# Altium schematic symbol library Cyberdeck.SchLib: 178 symbols (part 4 of 5)
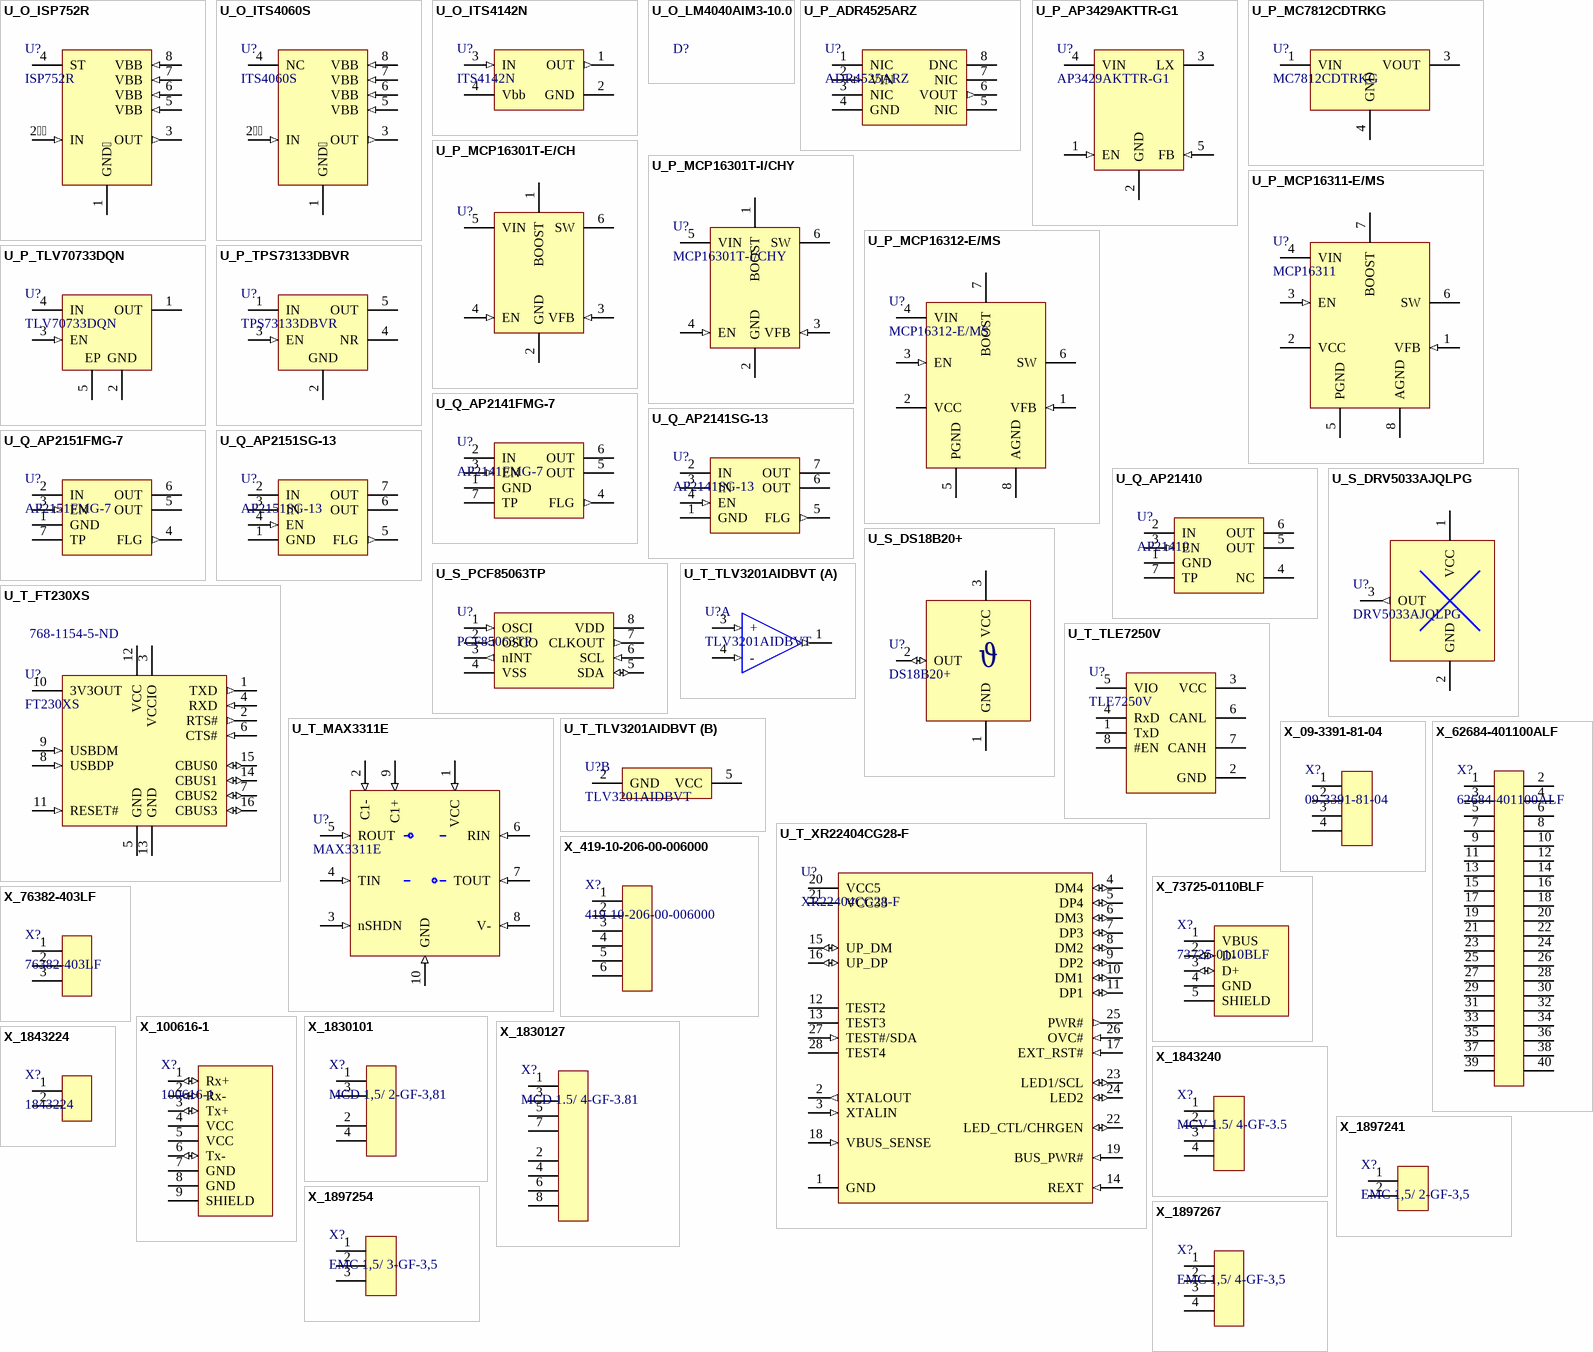
[diagram p8: symbols U_O_ISP752R to X_1897267]

## U_T_FT230XS
designator U?, comment FT230XS  Supplier Part Number 1: 768-1154-5-ND
USB to Basic UART Interface Chip, UHCI/OHCI/EHCI Compatible, USB 2.0 Compatible, -40 to +85 degC, 16-Pin SSOP, Pb-Free, Tube; Manufacturer 1: FTDI; Manufacturer Part Number 1: FT230XS-U; ComponentLink1Description: Manufacturer URL; ComponentLink1URL: http://www.ftdichip.com/; ComponentLink2Description: Datasheet; ComponentLink2URL: http://www.ftdichip.com/Support/Documents/DataSheets/ICs/DS_FT230X.pdf; ComponentLink3Description: FT230X Product Page; ComponentLink3URL: www.ftdichip.com/Products/ICs/FT230X.html; Supplier 1: Digi-Key; Case/Package: SSOP; ComponentLink4URL: https://datasheet.ciiva.com/16339/ds-ft230x-16339482.pdf; ComponentLink4Description: https://datasheet.ciiva.com/16339/ds-ft230x-16339482.pdf; ComponentLink5URL: https://datasheet.ciiva.com/6630/ds-ft230x-6630901.pdf; ComponentLink5Description: https://datasheet.ciiva.com/6630/ds-ft230x-6630901.pdf
footprint SSOP-16_N (SOP, 16-Leads, Body 4.9x3.9mm, Pitch 0.635mm, IPC Medium Density)
footprint SSOP-16_L (SOP, 16-Leads, Body 4.9x3.9mm, Pitch 0.635mm, IPC High Density)
footprint SSOP-16_M (SOP, 16-Leads, Body 4.9x3.9mm, Pitch 0.635mm, IPC Low Density)
pins: 1 TXD (out) "Transmit Asynchronous Data Output.", 2 RTS# (out) "Request to Send Control Output / Handshake Signal.", 3 VCCIO (power) "1V8 -3V3 supply for the IO cells.", 4 RXD (in) "Receiving Asynchronous Data Input.", 5 GND (power) "0V Ground input.", 6 CTS# (in) "Clear To Send Control Input / Handshake Signal.", 7 CBUS2 (io) "Configurable CBUS I/O Pin. Function of this pin is configured in the device MTP memory. The default configuration is TXLED#.", 8 USBDP (in) "USB Data Signal Plus.", 9 USBDM (in) "USB Data Signal Minus.", 10 3V3OUT (power) "3V3 output at 50mA. May be used to power VCCIO. When VCC is 3V3; pin 10 is an input pin and should be connected to pin 12.", 11 RESET# (in) "Reset input (active low).", 12 VCC (power) "5 V (or 3V3) supply to IC.", 13 GND (power) "0V Ground input.", 14 CBUS1 (io) "Configurable CBUS I/O Pin. Function of this pin is configured in the device MTP memory. The default configuration is RXLED#.", 15 CBUS0 (io) "Configurable CBUS I/O Pin. Function of this pin is configured in the device MTP memory. The default configuration is TXDEN.", 16 CBUS3 (io) "Configurable CBUS I/O Pin. Function of this pin is configured in the device MTP memory. The default configuration is SLEEP#."

## U_T_MAX3311E
designator U?, comment MAX3311E
IC TXRX RS232 460KBPS 10-UMAX; Manufacturer Part Number 1: MAX3311ECUB+; Manufacturer 1: Maxim; Supplier 1: Digi-Key; Supplier Part Number 1: MAX3311ECUB+-ND; ComponentLink1URL: https://datasheet.ciiva.com/3030/max3311e-max3313e-3030079.pdf; ComponentLink1Description: https://datasheet.ciiva.com/3030/max3311e-max3313e-3030079.pdf; ComponentLink2URL: https://datasheet.ciiva.com/1712/max3311e-max3313e-1712722.pdf; ComponentLink2Description: https://datasheet.ciiva.com/1712/max3311e-max3313e-1712722.pdf
footprint 10L uMAX (10L uMAX Maxim,)
pins: 1 VCC (in), 2 C1- (in), 3 nSHDN (in), 4 TIN (in), 5 ROUT (in), 6 RIN (in), 7 TOUT (in), 8 V- (in), 9 C1+ (in), 10 GND (in)

## U_T_TLE7250V
designator U?, comment TLE7250V
High Speed CAN-Transceiver; Manufacturer 1: Infineon; Manufacturer Part Number 1: TLE7250VSJXUMA1; Data Rate: 1Mbps; Min Supply Voltage: 4.5V; Number of Transceivers: 1; Max Supply Voltage: 5.5V; Quiescent Current: 13A; Operating Supply Voltage: 3.3V; Simplex/Duplex: Half Duplex; Receiver Hysteresis: 100mV; Stock 1: 703; Pricing 1: 1=0.91, 10=0.816, 100=0.6361, 500=0.5255, 1000=0.4148 (USD); Mount: Surface Mount; Number of Pins: 8; Packaging: Tape and Reel; Lead Free: Lead Free; Halogen Free: Halogen Free; ComponentLink1URL: http://www.mouser.com/ds/2/196/Infineon-TLE7250V-DS-v01_00-EN-793317.pdf; ComponentLink1Description: http://www.mouser.com/ds/2/196/Infineon-TLE7250V-DS-v01_00-EN-793317.pdf; ComponentLink2URL: https://www.infineon.com/dgdl/Infineon-TLE7250V-DS-v01_00-EN.pdf?fileId=5546d46259d9a4bf015a3cf6417e5e59; ComponentLink2Description: https://www.infineon.com/dgdl/Infineon-TLE7250V-DS-v01_00-EN.pdf?fileId=5546d46259d9a4bf015a3cf6417e5e59; ComponentLink3URL: http://www.infineon.com/dgdl/Infineon-TLE7250V-DS-v01_00-EN.pdf?fileId=5546d4624fb7fef2014fe04af1fa5f63&ack=t; ComponentLink3Description: http://www.infineon.com/dgdl/Infineon-TLE7250V-DS-v01_00-EN.pdf?fileId=5546d4624fb7fef2014fe04af1fa5f63&ack=t; Supplier 1: Digi-Key; Supplier Part Number 1: TLE7250VSJXUMA1CT-ND
footprint PG-DSO-8-44 (infineon PG-DSO-8-44)
pins: 1 TxD, 2 GND, 3 VCC, 4 RxD, 5 VIO, 6 CANL, 7 CANH, 8 #EN

## U_T_TLV3201AIDBVT
designator U?, comment TLV3201AIDBVT
Comparator Single R-R I/P 5.5V 5-Pin SOT-23 T/R; Manufacturer 1: Texas Instruments; Min Supply Voltage: 2.7V; Number of Channels: 1; Common Mode Rejection Ratio: 70dB; Propagation Delay: 50ns; Nominal Supply Current: 50uA; Input Offset Voltage (Vos): 5mV; Input Bias Current: 5nA; Quiescent Current: 40uA; Response Time: 0.047us; Power Supply Rejection Ratio (PSRR): 85dB; Hysteresis: 1.2mV; Supplier 1: Digi-Key; Supplier Part Number 1: 296-30404-1-ND; Manufacturer Part Number 1: TLV3201AIDBVT; Stock 1: 7017; Pricing 1: 1=1.56, 10=1.398, 100=1.0897 (USD); Mount: Surface Mount; Case/Package: SOT-23; Number of Pins: 5; Contact Plating: Gold; Min Operating Temperature: -40°C; Max Operating Temperature: 125°C; Max Supply Voltage: 5.5V; Packaging: Tape and Reel; Package Quantity: 250; Number of Elements: 1; Max Supply Current: 40uA; Type: General Purpose; Max Input Current: 5nA; Length: 3.05mm; Height: 1.3mm; Width: 1.75mm; Radiation Hardening: No; Lead Free: Lead Free; REACH SVHC: No SVHC; ComponentLink1URL: https://datasheet.ciiva.com/23702/1636646-23702135.pdf; ComponentLink1Description: https://datasheet.ciiva.com/23702/1636646-23702135.pdf; ComponentLink2URL: https://datasheet.ciiva.com/26218/sbos561a-26218594.pdf; ComponentLink2Description: https://datasheet.ciiva.com/26218/sbos561a-26218594.pdf; ComponentLink3URL: https://datasheet.ciiva.com/46396/1882110-46396746.pdf; ComponentLink3Description: https://datasheet.ciiva.com/46396/1882110-46396746.pdf; ComponentLink4URL: https://datasheet.ciiva.com/8066/1636646-8066012.pdf; ComponentLink4Description: https://datasheet.ciiva.com/8066/1636646-8066012.pdf; ComponentLink5URL: https://datasheet.ciiva.com/2966/tlv3202-2966811.pdf; ComponentLink5Description: https://datasheet.ciiva.com/2966/tlv3202-2966811.pdf; ComponentLink6URL: https://datasheet.ciiva.com/2961/tlv3201-2961254.pdf; ComponentLink6Description: https://datasheet.ciiva.com/2961/tlv3201-2961254.pdf; ComponentLink7URL: https://datasheet.ciiva.com/2961/tlv3201-2961255.pdf; ComponentLink7Description: https://datasheet.ciiva.com/2961/tlv3201-2961255.pdf; ComponentLink8URL: https://datasheet.ciiva.com/2961/tlv3201-2961256.pdf; ComponentLink8Description: https://datasheet.ciiva.com/2961/tlv3201-2961256.pdf
footprint SOT-23-5
part A pins: 1 (out), 3 + (in), 4 - (in)
part B pins: 2 GND (power), 5 VCC (power)

## U_T_XR22404CG28-F
designator U?, comment XR22404CG28-F
USB Controller USB 2.0 USB Interface; Manufacturer: Exar; Supplier 1: Digi-Key; Supplier Part Number 1: 1016-2163-ND; Manufacturer Part Number: XR22404CG28-F; ComponentLink1Description: Datasheet; ComponentLink1URL: https://www.exar.com/ds/xr22404.pdf
footprint SSOP-28 (SOP, 28-Leads, Body 9.91x3.90mm, Pitch 0.64mm, IPC Medium Density)
pins: 1 GND (power), 2 XTALOUT (out), 3 XTALIN (in), 4 DM4 (io), 5 DP4 (io), 6 DM3 (io), 7 DP3 (io), 8 DM2 (io), 9 DP2 (io), 10 DM1 (io), 11 DP1 (io), 12 TEST2, 13 TEST3, 14 REXT (in), 15 UP_DM (io), 16 UP_DP (io), 17 EXT_RST# (in), 18 VBUS_SENSE (in), 19 BUS_PWR# (in), 20 VCC5 (power), 21 VCC33 (power), 22 LED_CTL/CHRGEN (io), 23 LED1/SCL (io), 24 LED2 (io), 25 PWR# (out), 26 OVC# (in), 27 TEST#/SDA (in), 28 TEST4

## X_09-3391-81-04
designator X?, comment 09-3391-81-04
Binder, 4 Pole Panel Mount Connector Socket, Male Contacts; Supplier 1: Distrelec; Supplier Part Number 1: 144-18-076; Manufacturer: Binder; Manufacturer Part Number: 09-3391-81-04; ComponentLink1URL: https://datasheet.ciiva.com/11734/0900766b80e64efb-11734654.pdf; ComponentLink1Description: https://datasheet.ciiva.com/11734/0900766b80e64efb-11734654.pdf; ComponentLink2URL: https://datasheet.ciiva.com/14108/xqdata-allg-d-e-14108329.pdf; ComponentLink2Description: https://datasheet.ciiva.com/14108/xqdata-allg-d-e-14108329.pdf
footprint 09-3391-81-04
pins: 1, 2, 3, 4

## X_419-10-206-00-006000
designator X?, comment 419-10-206-00-006000
6 Position Spring Mating Target Connector Through Hole; Manufacturer: Mill-Max; Supplier 1: Digi-Key; Supplier Part Number 1: ED1376-ND; Manufacturer Part Number: 419-10-206-00-006000; ComponentLink1URL: https://www.mill-max.com/assets/pdfs/021.2.PDF; ComponentLink1Description: https://www.mill-max.com/assets/pdfs/021.2.PDF
footprint 419-10-206-00-006000_EDGE
pins: 1, 2, 3, 4, 5, 6

## X_62684-401100ALF
designator X?, comment 62684-401100ALF
40 Position FPC Connector Contacts, Bottom 0.020" (0.50mm) Surface Mount, Right Angle, Amphenol 62684-401100ALF, TE  4-1734592-0; Manufacturer: Amphenol FCI; Supplier 1: Digi-Key; Supplier Part Number 1: 609-1195-1-ND; Manufacturer Part Number: 62684-401100ALF; ComponentLink1URL: https://datasheet.ciiva.com/25631/0900766b8118e51f-25631168.pdf; ComponentLink1Description: https://datasheet.ciiva.com/25631/0900766b8118e51f-25631168.pdf; ComponentLink2URL: https://datasheet.ciiva.com/3112/62684-3112007.pdf; ComponentLink2Description: https://datasheet.ciiva.com/3112/62684-3112007.pdf; ComponentLink3URL: https://datasheet.ciiva.com/670/62684-670200.pdf; ComponentLink3Description: https://datasheet.ciiva.com/670/62684-670200.pdf; ComponentLink4URL: https://datasheet.ciiva.com/670/62684-670201.pdf; ComponentLink4Description: https://datasheet.ciiva.com/670/62684-670201.pdf; ComponentLink5URL: https://datasheet.ciiva.com/670/62684-670202.pdf; ComponentLink5Description: https://datasheet.ciiva.com/670/62684-670202.pdf; ComponentLink6URL: https://datasheet.ciiva.com/16659/62684-16659882.pdf; ComponentLink6Description: https://datasheet.ciiva.com/16659/62684-16659882.pdf; ComponentLink7URL: https://datasheet.ciiva.com/16709/70236840-16709916.pdf; ComponentLink7Description: https://datasheet.ciiva.com/16709/70236840-16709916.pdf; ComponentLink8URL: https://datasheet.ciiva.com/3112/62684-3112397.pdf; ComponentLink8Description: https://datasheet.ciiva.com/3112/62684-3112397.pdf; ComponentLink9URL: https://datasheet.ciiva.com/5772/62684-5772782.pdf; ComponentLink9Description: https://datasheet.ciiva.com/5772/62684-5772782.pdf; Supplier 2: Digi-Key; Supplier Part Number 2: A100226CT-ND; Manufacturer 2: TE CONNECTIVITY; Stock 2: 2337; ComponentLink10URL: https://datasheet.ciiva.com/16317/4-1734592-0-16317310.pdf; ComponentLink10Description: https://datasheet.ciiva.com/16317/4-1734592-0-16317310.pdf; ComponentLink11URL: https://datasheet.ciiva.com/46396/1795029-46396773.pdf; ComponentLink11Description: https://datasheet.ciiva.com/46396/1795029-46396773.pdf; ComponentLink12URL: https://datasheet.ciiva.com/10365/eng-ds-1-1773440-6-0506-10365927.pdf; ComponentLink12Description: https://datasheet.ciiva.com/10365/eng-ds-1-1773440-6-0506-10365927.pdf; ComponentLink13URL: https://datasheet.ciiva.com/669/eng-cd-1734592-c-c-1734592-669272.pdf; ComponentLink13Description: https://datasheet.ciiva.com/669/eng-cd-1734592-c-c-1734592-669272.pdf; ComponentLink14URL: https://datasheet.ciiva.com/669/eng-cd-1734592-c-c-1734592-669273.pdf; ComponentLink14Description: https://datasheet.ciiva.com/669/eng-cd-1734592-c-c-1734592-669273.pdf; ComponentLink15URL: https://datasheet.ciiva.com/669/eng-cd-1734592-c-c-1734592-669274.pdf; ComponentLink15Description: https://datasheet.ciiva.com/669/eng-cd-1734592-c-c-1734592-669274.pdf; ComponentLink16URL: https://datasheet.ciiva.com/16660/eng-ds-1-1773440-6-0506-16660381.pdf; ComponentLink16Description: https://datasheet.ciiva.com/16660/eng-ds-1-1773440-6-0506-16660381.pdf; ComponentLink17URL: https://datasheet.ciiva.com/1437/586796-1437950.pdf; ComponentLink17Description: https://datasheet.ciiva.com/1437/586796-1437950.pdf; Manufacturer Part Number 2: 4-1734592-0
footprint 4-1734592-0
pins: 1, 2, 3, 4, 5, 6, 7, 8, 9, 10, 11, 12, 13, 14, 15, 16, 17, 18, 19, 20, 21, 22, 23, 24, 25, 26, 27, 28, 29, 30, 31, 32, 33, 34, 35, 36, 37, 38, 39, 40

## X_73725-0110BLF
designator X?, comment 73725-0110BLF
CONN RCPT USB2.0 TYPEA 4POS R/A
footprint 73725-0110BLF
pins: 1 VBUS (power), 2 D- (io), 3 D+ (io), 4 GND (power), 5 SHIELD (power)

## X_76382-403LF
designator X?, comment 76382-403LF
3 Positions Header, Shrouded Connector 0.100" (2.54mm) Through Hole, Right Angle Tin; Manufacturer 1: Amphenol FCI; Supplier 1: Digi-Key; Supplier Part Number 1: 609-1292-ND; Manufacturer Part Number 1: 76382-403LF; ComponentLink1URL: https://datasheet.ciiva.com/13577/76382-105929-13577951.pdf; ComponentLink1Description: https://datasheet.ciiva.com/13577/76382-105929-13577951.pdf; ComponentLink2URL: https://datasheet.ciiva.com/713/76382-713319.pdf; ComponentLink2Description: https://datasheet.ciiva.com/713/76382-713319.pdf
footprint 76382-403LF
pins: 1, 2, 3

## X_100616-1
designator X?, comment 100616-1
TE CONNECTIVITY / AMP 100616-1 JACK, RJ45, THT; Supplier 1: Digi-Key; Supplier Part Number 1: A104931-ND; Manufacturer 1: TE Connectivity; Manufacturer Part Number 1: 100616-1; ComponentLink1URL: https://datasheet.ciiva.com/23759/1509416-23759356.pdf; ComponentLink1Description: https://datasheet.ciiva.com/23759/1509416-23759356.pdf; ComponentLink2URL: https://datasheet.ciiva.com/16323/eng-cs-82066-mod-jacks-and-mrj21-prod-single-1107-16323398.pdf; ComponentLink2Description: https://datasheet.ciiva.com/16323/eng-cs-82066-mod-jacks-and-mrj21-prod-single-1107-16323398.pdf; ComponentLink3URL: https://datasheet.ciiva.com/16548/eng-cs-82066-mod-jacks-and-mrj21-prod-single-1107-16548141.pdf; ComponentLink3Description: https://datasheet.ciiva.com/16548/eng-cs-82066-mod-jacks-and-mrj21-prod-single-1107-16548141.pdf; ComponentLink4URL: https://datasheet.ciiva.com/6931/eng-cd-100616-p-6931516.pdf; ComponentLink4Description: https://datasheet.ciiva.com/6931/eng-cd-100616-p-6931516.pdf; ComponentLink5URL: https://datasheet.ciiva.com/1107/492544-1107159.pdf; ComponentLink5Description: https://datasheet.ciiva.com/1107/492544-1107159.pdf; ComponentLink6URL: https://datasheet.ciiva.com/3139/eng-cs-82066-mod-jacks-and-mrj21-prod-single-1107-3139307.pdf; ComponentLink6Description: https://datasheet.ciiva.com/3139/eng-cs-82066-mod-jacks-and-mrj21-prod-single-1107-3139307.pdf
footprint 100616-1
pins: 1 Rx+ (io), 2 Rx- (io), 3 Tx+ (io), 4 VCC (power), 5 VCC (power), 6 Tx- (io), 7 GND (power), 8 GND (power), 9 SHIELD (power)

## X_1830101
designator X?, comment MCD 1,5/ 2-GF-3,81
Manufacturer 1: Phoenix Contact; Manufacturer Part Number 1: 1830101; Supplier 1: Digi-Key; Supplier Part Number 1: 277-14134-ND; ComponentLink1URL: http://components.arrow.com/part/dataview/44194232S75533N1555; ComponentLink1Description: http://components.arrow.com/part/dataview/44194232S75533N1555; ComponentLink2URL: //media.digikey.com/pdf/Data%20Sheets/Phoenix%20Contact%20PDFs/1830101.pdf; ComponentLink2Description: //media.digikey.com/pdf/Data%20Sheets/Phoenix%20Contact%20PDFs/1830101.pdf; ComponentLink3URL: http://www.mouser.com/ds/2/324/ItemDetail_1830101-922520.pdf; ComponentLink3Description: http://www.mouser.com/ds/2/324/ItemDetail_1830101-922520.pdf
footprint MCD 1,5/ 2-GF-3,81
pins: 1, 2, 3, 4

## X_1830127
designator X?, comment MCD 1.5/ 4-GF-3.81
Manufacturer 1: Phoenix Contact; Manufacturer Part Number 1: 1830127; Supplier 1: Digi-Key; Supplier Part Number 1: 1830127-ND; ComponentLink1URL: http://www.mouser.com/ds/2/324/ItemDetail_1830127-917667.pdf; ComponentLink1Description: http://www.mouser.com/ds/2/324/ItemDetail_1830127-917667.pdf; ComponentLink2URL: http://components.arrow.com/part/dataview/44194238S9084575N1555; ComponentLink2Description: http://components.arrow.com/part/dataview/44194238S9084575N1555
footprint MCD 1,5/ 4-GF-3,81
pins: 1, 2, 3, 4, 5, 6, 7, 8

## X_1843224
designator X?, comment 1843224
Pluggable Terminal Blocks MCV 1.5/ 2-GF-3.5; Manufacturer: Phoenix Contact; Supplier 1: Digi-Key; Supplier Part Number 1: 277-6083-ND; Manufacturer Part Number: 1843224
footprint MCV 1,5/ 2-GF-3,5
pins: 1, 2

## X_1843240
designator X?, comment MCV 1.5/ 4-GF-3.5
Manufacturer 1: Phoenix Contact; Manufacturer Part Number 1: 1843240; Supplier 1: Digi-Key; Supplier Part Number 1: 277-6052-ND; ComponentLink1URL: https://datasheet.ciiva.com/16097/1843240-16097113.pdf; ComponentLink1Description: https://datasheet.ciiva.com/16097/1843240-16097113.pdf; ComponentLink2URL: https://datasheet.ciiva.com/6754/1843240-6754509.pdf; ComponentLink2Description: https://datasheet.ciiva.com/6754/1843240-6754509.pdf; ComponentLink3URL: https://datasheet.ciiva.com/26840/getdatasheetpartid-514980-26840529.pdf; ComponentLink3Description: https://datasheet.ciiva.com/26840/getdatasheetpartid-514980-26840529.pdf; ComponentLink4URL: https://datasheet.ciiva.com/29212/788433-da-01-en-grundgehaeuse-1843240-250-st-29212946.pdf; ComponentLink4Description: https://datasheet.ciiva.com/29212/788433-da-01-en-grundgehaeuse-1843240-250-st-29212946.pdf
footprint MCV 1,5/ 4-GF-3,5 (EMC 1,5/ 4-GF-3,5)
pins: 1, 2, 3, 4

## X_1897241
designator X?, comment EMC 1,5/ 2-GF-3,5
Manufacturer 1: Phoenix Contact; Manufacturer Part Number 1: 1897241; Supplier 1: Digi-Key; Supplier Part Number 1: 1897241-ND; ComponentLink1URL: https://datasheet.ciiva.com/16097/1897241-16097355.pdf; ComponentLink1Description: https://datasheet.ciiva.com/16097/1897241-16097355.pdf; ComponentLink2URL: https://datasheet.ciiva.com/29684/connection-technology-2013-2014-cat-29684313.pdf; ComponentLink2Description: https://datasheet.ciiva.com/29684/connection-technology-2013-2014-cat-29684313.pdf
footprint EMC 1,5/ 2-GF-3,5
pins: 1, 2

## X_1897254
designator X?, comment EMC 1,5/ 3-GF-3,5
Manufacturer 1: Phoenix Contact; Manufacturer Part Number 1: 1897254; Supplier 1: Digi-Key; Supplier Part Number 1: 1897254-ND; ComponentLink1URL: http://components.arrow.com/part/dataview/44212184S75125N1555; ComponentLink1Description: http://components.arrow.com/part/dataview/44212184S75125N1555; ComponentLink2URL: http://www.mouser.com/ds/2/324/ItemDetail_1897254-930176.pdf; ComponentLink2Description: http://www.mouser.com/ds/2/324/ItemDetail_1897254-930176.pdf
footprint EMC 1,5/ 3-GF-3,5
pins: 1, 2, 3

## X_1897267
designator X?, comment EMC 1,5/ 4-GF-3,5
EMC 1,5/ 3-GF-3,5; Manufacturer 1: Phoenix Contact; Manufacturer Part Number 1: 1897267; Supplier 1: Digi-Key; Supplier Part Number 1: 1897267-ND; ComponentLink1URL: http://components.arrow.com/part/dataview/44212188S75173N1555; ComponentLink1Description: http://components.arrow.com/part/dataview/44212188S75173N1555; ComponentLink2URL: http://www.mouser.com/ds/2/324/ItemDetail_1897267-930178.pdf; ComponentLink2Description: http://www.mouser.com/ds/2/324/ItemDetail_1897267-930178.pdf; ComponentLink3URL: //media.digikey.com/pdf/Data%20Sheets/Phoenix%20Contact%20PDFs/Connection_Technology_2013-2014_Cat.pdf; ComponentLink3Description: //media.digikey.com/pdf/Data%20Sheets/Phoenix%20Contact%20PDFs/Connection_Technology_2013-2014_Cat.pdf
footprint EMC 1,5/ 4-GF-3,5
pins: 1, 2, 3, 4

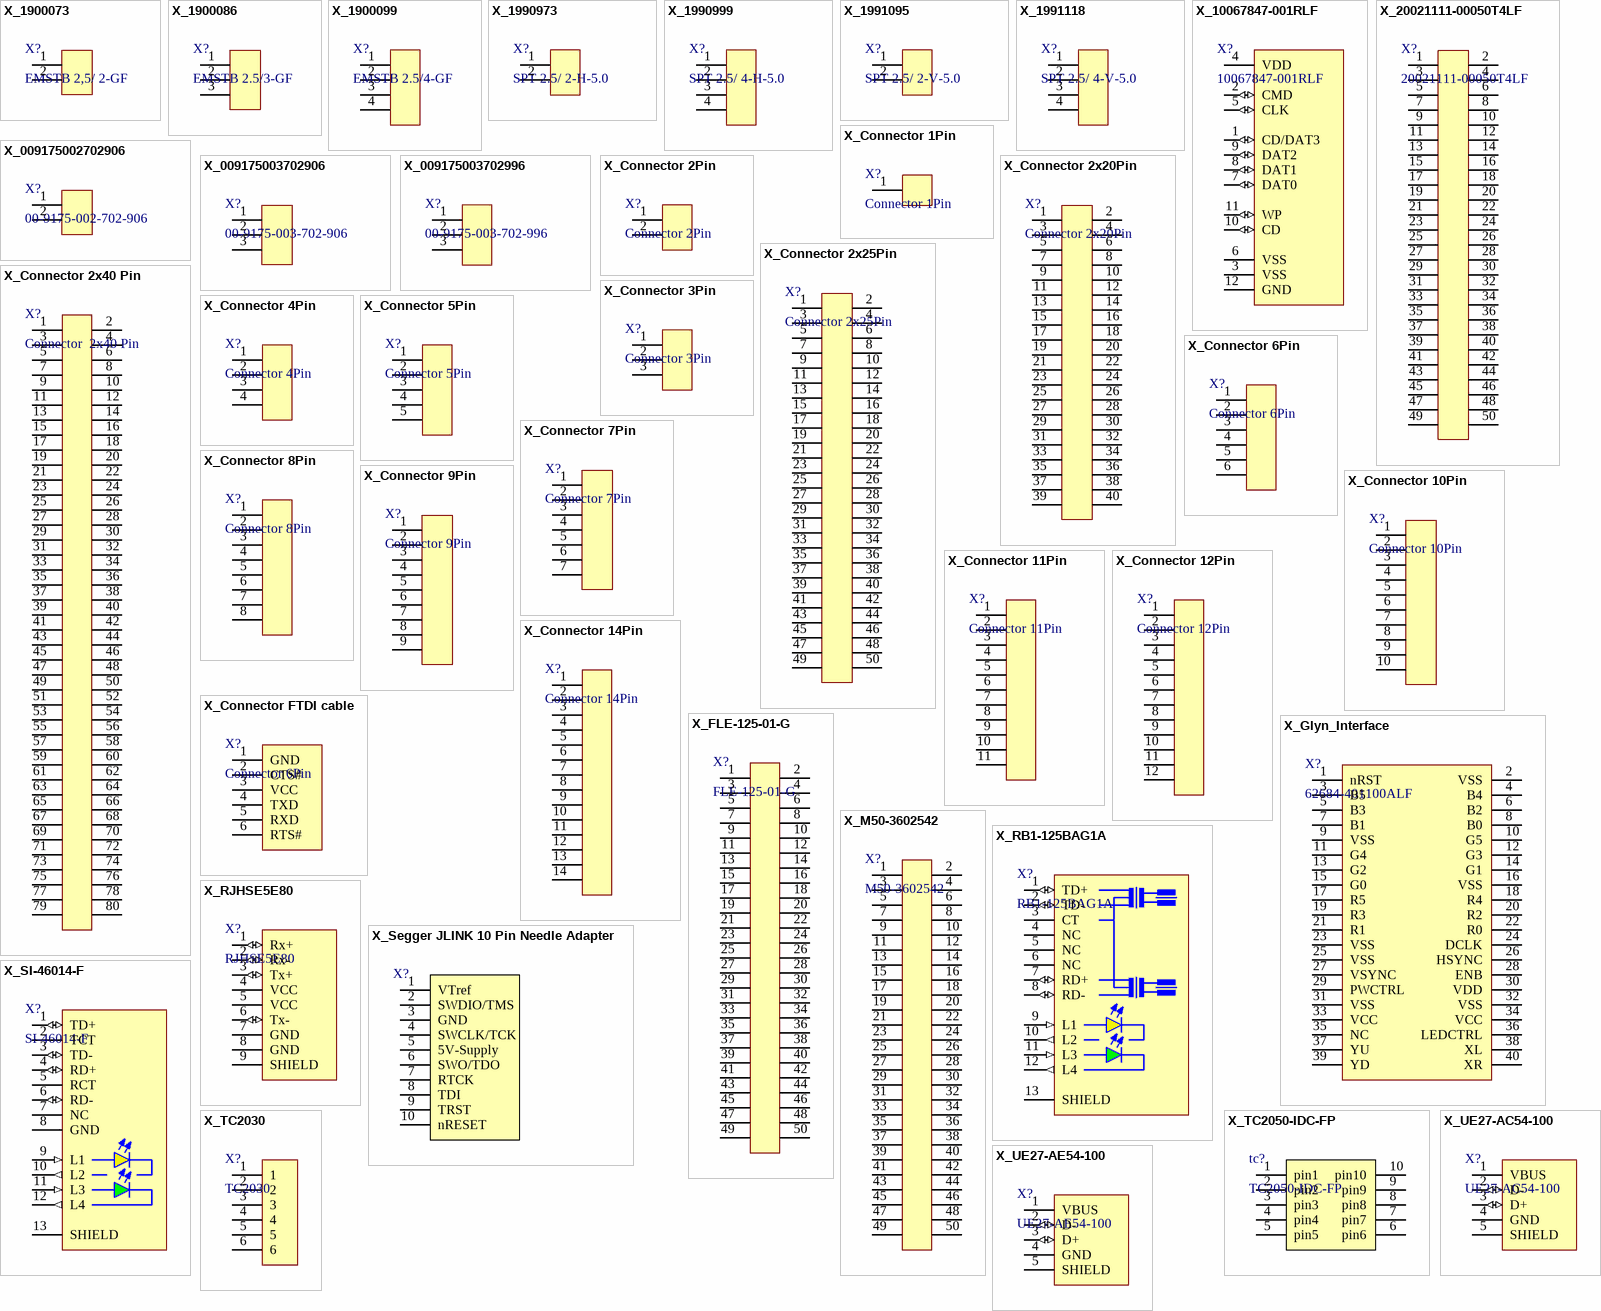
[diagram p4: symbols X_1900073 to X_UE27-AE54-100]

## X_1900073
designator X?, comment EMSTB 2,5/ 2-GF
Pluggable Terminal Blocks EMSTB 2.5/2-GF; Manufacturer 1: Phoenix Contact; Manufacturer Part Number 1: 1900073; Supplier 1: Digi-Key; Supplier Part Number 1: 277-14326-ND; ComponentLink1URL: https://datasheet.ciiva.com/16097/1900073-16097371.pdf; ComponentLink1Description: https://datasheet.ciiva.com/16097/1900073-16097371.pdf
footprint EMSTB 2,5/ 2-GF
pins: 1, 2

## X_1900086
designator X?, comment EMSTB 2.5/3-GF
Pluggable Terminal Blocks EMSTB 2.5/3-GF; Manufacturer 1: Phoenix Contact; Manufacturer Part Number 1: 1900086; Supplier 1: Digi-Key; Supplier Part Number 1: 1900086-ND; ComponentLink1URL: http://components.arrow.com/part/dataview/44220487S75226N1555; ComponentLink1Description: http://components.arrow.com/part/dataview/44220487S75226N1555; ComponentLink2URL: http://www.mouser.com/ds/2/324/ItemDetail_1900086-930201.pdf; ComponentLink2Description: http://www.mouser.com/ds/2/324/ItemDetail_1900086-930201.pdf; ComponentLink3URL: //media.digikey.com/pdf/Data%20Sheets/Phoenix%20Contact%20PDFs/1900086.pdf; ComponentLink3Description: //media.digikey.com/pdf/Data%20Sheets/Phoenix%20Contact%20PDFs/1900086.pdf
footprint EMSTB 2,5/ 3-GF
pins: 1, 2, 3

## X_1900099
designator X?, comment EMSTB 2.5/4-GF
Pluggable Terminal Blocks EMSTB 2.5/4-GF; Manufacturer 1: Phoenix Contact; Manufacturer Part Number 1: 1900099; Supplier 1: Digi-Key; Supplier Part Number 1: 1900099-ND; ComponentLink1URL: https://datasheet.ciiva.com/816/1900099-816890.pdf; ComponentLink1Description: https://datasheet.ciiva.com/816/1900099-816890.pdf
footprint EMSTB 2.5/4-GF
pins: 1, 2, 3, 4

## X_1990973
designator X?, comment SPT 2.5/ 2-H-5.0
Fixed Terminal Blocks SPT 2.5/ 2-H-5.0 5MM 2P HORZ SPR; Manufacturer 1: Phoenix Contact; Manufacturer Part Number 1: 1990973; Supplier 1: Digi-Key; Supplier Part Number 1: 277-7665-ND; ComponentLink1URL: https://datasheet.ciiva.com/24441/1990973-24441484.pdf; ComponentLink1Description: https://datasheet.ciiva.com/24441/1990973-24441484.pdf; ComponentLink2URL: https://datasheet.ciiva.com/11758/0900766b80ff57cd-11758662.pdf; ComponentLink2Description: https://datasheet.ciiva.com/11758/0900766b80ff57cd-11758662.pdf
footprint SPT 2,5/2-H-5,0
pins: 1, 2

## X_1990999
designator X?, comment SPT 2.5/ 4-H-5.0
Fixed Terminal Blocks SPT 2.5/ 4-H-5.0 5MM 4P HORZ SPR; Manufacturer 1: Phoenix Contact; Manufacturer Part Number 1: 1990999; Supplier 1: Digi-Key; Supplier Part Number 1: 277-9154-ND; ComponentLink1URL: https://datasheet.ciiva.com/11758/0900766b80ff57cf-11758637.pdf; ComponentLink1Description: https://datasheet.ciiva.com/11758/0900766b80ff57cf-11758637.pdf
footprint SPT 2,5/4-H-5,0
pins: 1, 2, 3, 4

## X_1991095
designator X?, comment SPT 2.5/ 2-V-5.0
Fixed Terminal Blocks SPT 2.5/ 2-V-5.0 5MM 2P VERT SPR; Manufacturer 1: Phoenix Contact; Manufacturer Part Number 1: 1991095; Supplier 1: Digi-Key; Supplier Part Number 1: 277-6267-ND; ComponentLink1URL: https://datasheet.ciiva.com/16051/1991095-16051374.pdf; ComponentLink1Description: https://datasheet.ciiva.com/16051/1991095-16051374.pdf; ComponentLink2URL: https://datasheet.ciiva.com/6752/1991095-6752880.pdf; ComponentLink2Description: https://datasheet.ciiva.com/6752/1991095-6752880.pdf; ComponentLink3URL: https://datasheet.ciiva.com/29222/774864-da-01-en-printklemme-1991095-100-st-29222380.pdf; ComponentLink3Description: https://datasheet.ciiva.com/29222/774864-da-01-en-printklemme-1991095-100-st-29222380.pdf
footprint SPT 2,5/2-V-5,0
pins: 1, 2

## X_1991118
designator X?, comment SPT 2.5/ 4-V-5.0
Fixed Terminal Blocks SPT 2.5/ 4-V-5.0 5MM 4P VERT SPR; Manufacturer 1: Phoenix Contact; Manufacturer Part Number 1: 1991118; Supplier 1: Digi-Key; Supplier Part Number 1: 277-6407-ND; ComponentLink1URL: https://datasheet.ciiva.com/11758/0900766b80ffd31d-11758652.pdf; ComponentLink1Description: https://datasheet.ciiva.com/11758/0900766b80ffd31d-11758652.pdf; ComponentLink2URL: https://datasheet.ciiva.com/6752/1991118-6752792.pdf; ComponentLink2Description: https://datasheet.ciiva.com/6752/1991118-6752792.pdf; ComponentLink3URL: https://datasheet.ciiva.com/14609/70055231-14609885.pdf; ComponentLink3Description: https://datasheet.ciiva.com/14609/70055231-14609885.pdf
footprint SPT 2,5/4-V-5,0
pins: 1, 2, 3, 4

## X_10067847-001RLF
designator X?, comment 10067847-001RLF
CONN SD CARD PUSH-PUSH SMD; Manufacturer 1: Amphenol FCI; Supplier 1: Digi-Key; Supplier Part Number 1: 609-3956-1-ND; Manufacturer Part Number 1: 10067847-001RLF; ComponentLink1URL: https://datasheet.ciiva.com/4581/gs-12-497-4581078.pdf; ComponentLink1Description: https://datasheet.ciiva.com/4581/gs-12-497-4581078.pdf; ComponentLink2URL: https://datasheet.ciiva.com/1106/10067847-1106690.pdf; ComponentLink2Description: https://datasheet.ciiva.com/1106/10067847-1106690.pdf; ComponentLink3URL: https://datasheet.ciiva.com/16547/10067847-16547175.pdf; ComponentLink3Description: https://datasheet.ciiva.com/16547/10067847-16547175.pdf; ComponentLink4URL: https://datasheet.ciiva.com/16469/10067847-16469065.pdf; ComponentLink4Description: https://datasheet.ciiva.com/16469/10067847-16469065.pdf; ComponentLink5URL: https://datasheet.ciiva.com/14617/70248486-14617899.pdf; ComponentLink5Description: https://datasheet.ciiva.com/14617/70248486-14617899.pdf; ComponentLink6URL: https://datasheet.ciiva.com/1107/10067847-1107127.pdf; ComponentLink6Description: https://datasheet.ciiva.com/1107/10067847-1107127.pdf; ComponentLink7URL: https://datasheet.ciiva.com/683/10067847-683412.pdf; ComponentLink7Description: https://datasheet.ciiva.com/683/10067847-683412.pdf; ComponentLink8URL: https://datasheet.ciiva.com/683/10067847-683413.pdf; ComponentLink8Description: https://datasheet.ciiva.com/683/10067847-683413.pdf; ComponentLink9URL: https://datasheet.ciiva.com/683/10067847-683411.pdf; ComponentLink9Description: https://datasheet.ciiva.com/683/10067847-683411.pdf
footprint 10067847 (Footprint not found)
pins: 1 CD/DAT3 (io), 2 CMD (io), 3 VSS (power), 4 VDD (power), 5 CLK (io), 6 VSS (power), 7 DAT0 (io), 8 DAT1 (io), 9 DAT2 (io), 10 CD (io), 11 WP (io), 12 GND (power)

## X_20021111-00050T4LF
designator X?, comment 20021111-00050T4LF
50 Positions Header, Unshrouded Connector 0.050" (1.27mm) Through Hole Gold; Manufacturer: Amphenol FCI; Contact Resistance: 30mR; Current Rating: 50A; Voltage Rating: 125V; Number of Positions: 50; Gender: Male; Connector Type: Male Pin; Row Spacing: 0.05inch; Mating Post Length: 3.05mm; Supplier 1: Digi-Key; Supplier Part Number 1: 609-3725-ND; Manufacturer Part Number: 20021111-00050T4LF; Stock 1: 810; Pricing 1: 1=2.63, 10=2.527, 100=2.1058, 500=1.78994, 1000=1.52671, 5000=1.36877 (USD); Mount: Through Hole; Contact Plating: Gold; Contact Material: Nickel,Copper Alloy; Colour: Black; Housing Colour: Black; Housing Material: Plastic; Min Operating Temperature: -40°C; Max Operating Temperature: 85°C; Number of Rows: 2; Packaging: Rail/Tube; Package Quantity: 18; Termination: Solder; Max Voltage Rating (AC): 125V; Number of Contacts: 50; Orientation: Straight; Length: 31.75mm; Pitch: 1.27mm; Contact Mating Length: 0.12inch; Termination Post Length: 2.3mm; Depth: 3.4mm; ComponentLink1URL: https://datasheet.ciiva.com/409/20021111-409178.pdf; ComponentLink1Description: https://datasheet.ciiva.com/409/20021111-409178.pdf; ComponentLink2URL: https://datasheet.ciiva.com/10033/20021111-10033770.pdf; ComponentLink2Description: https://datasheet.ciiva.com/10033/20021111-10033770.pdf; ComponentLink3URL: https://datasheet.ciiva.com/13857/20021111-13857309.pdf; ComponentLink3Description: https://datasheet.ciiva.com/13857/20021111-13857309.pdf
footprint 20021111-00050T4LF (CONN HEADER 50POS UNSHD VERT T/H)
pins: 1, 2, 3, 4, 5, 6, 7, 8, 9, 10, 11, 12, 13, 14, 15, 16, 17, 18, 19, 20, 21, 22, 23, 24, 25, 26, 27, 28, 29, 30, 31, 32, 33, 34, 35, 36, 37, 38, 39, 40, 41, 42, 43, 44, 45, 46, 47, 48, 49, 50

## X_009175002702906
designator X?, comment 00-9175-002-702-906
Conn IDC Connector RCP 2 POS 2.5mm Solder ST SMD T/R; Manufacturer: Kyocera AVX; Manufacturer Part Number: 009175002702906; Supplier 1: Digi-Key; Supplier Part Number 1: 009175002702906-ND; ComponentLink1URL: http://www.avx.com/docs/Catalogs/Capped%20IDC%209175-700.pdf; ComponentLink1Description: http://www.avx.com/docs/Catalogs/Capped%20IDC%209175-700.pdf; ComponentLink2URL: http://datasheets.avx.com/CappedIDC_9175-700.pdf; ComponentLink2Description: http://datasheets.avx.com/CappedIDC_9175-700.pdf
footprint 00-9175-002-702-906
pins: 1, 2

## X_009175003702906
designator X?, comment 00-9175-003-702-906
Conn IDC Connector RCP 3 POS 2.5mm Solder ST SMD T/R; Manufacturer: Kyocera AVX; Manufacturer Part Number: 009175003702906; Supplier 1: Digi-Key; Supplier Part Number 1: 009175003702906-ND; ComponentLink1URL: http://datasheets.avx.com/CappedIDC_9175-700.pdf; ComponentLink1Description: http://datasheets.avx.com/CappedIDC_9175-700.pdf; ComponentLink2URL: http://www.avx.com/docs/Catalogs/Capped%20IDC%209175-700.pdf; ComponentLink2Description: http://www.avx.com/docs/Catalogs/Capped%20IDC%209175-700.pdf
footprint 00-9175-003-702-906
pins: 1, 2, 3

## X_009175003702996
designator X?, comment 00-9175-003-702-996
3 Position Individual Wires Connector White IDC 26 AWG Surface Mount, Right Angle; Manufacturer: Kyocera AVX; Manufacturer Part Number: 009175003702996; Supplier 1: Digi-Key; Supplier Part Number 1: 478-9530-1-ND; ComponentLink1URL: http://datasheets.avx.com/CappedIDC_9175-700.pdf; ComponentLink1Description: http://datasheets.avx.com/CappedIDC_9175-700.pdf
footprint 00-9175-003-702-996
pins: 1, 2, 3

## X_Connector 1Pin
designator X?, comment Connector 1Pin
Generic connector 1 Pin
footprint Pin Header 1x1 TH Pitch 2.54mm (PinHeader 1x1 TH Pitch 2.54mm)
footprint Pin Header 1x1 TH Pitch 2.54mm TP (PinHeader 1x1 TH Pitch 2.54mm)
pins: 1

## X_Connector 2Pin
designator X?, comment Connector 2Pin
Generic connector 2 Pin
footprint Pin Header 1x2 TH Pitch 2.54mm (PinHeader 1x2 TH Pitch 2.54mm)
footprint Solderpads2x2.54
footprint Pin Header 1x2 TH Pitch 2.54mm f (PinHeader 1x2 TH Pitch 2.54mm female)
pins: 1, 2

## X_Connector 2x20Pin
designator X?, comment Connector 2x20Pin
Generic connector 2x20 Pin
footprint Pin Header 2x20 TH Pitch 2.54mm F (PinHeader 2x20 TH Pitch 2.54mm Female)
footprint Pin Header 2x20 TH Pitch 2.54mm (PinHeader 2x20 TH Pitch 2.54mm)
footprint Pin Header 2x20 TH Pitch 2.54mm - sh (PinHeader 2x20 TH Pitch 2.54mm)
pins: 1, 2, 3, 4, 5, 6, 7, 8, 9, 10, 11, 12, 13, 14, 15, 16, 17, 18, 19, 20, 21, 22, 23, 24, 25, 26, 27, 28, 29, 30, 31, 32, 33, 34, 35, 36, 37, 38, 39, 40

## X_Connector 2x25Pin
designator X?, comment Connector 2x25Pin
Generic connector 2x25 Pin
footprint Pin Header 2x25 TH Pitch 2.54mm (PinHeader 2x20 TH Pitch 2.54mm)
footprint 20021111-00050T4LF (CONN HEADER 50POS UNSHD VERT T/H)
footprint Pin Header 2x25 SMD Pitch 2.54mm F (PinHeader 2x25 SMD Pitch 2.54mm female)
footprint Pin Header 2x25 TH Pitch 2.54mm F (PinHeader 2x20 TH Pitch 2.54mm female)
pins: 1, 2, 3, 4, 5, 6, 7, 8, 9, 10, 11, 12, 13, 14, 15, 16, 17, 18, 19, 20, 21, 22, 23, 24, 25, 26, 27, 28, 29, 30, 31, 32, 33, 34, 35, 36, 37, 38, 39, 40, 41, 42, 43, 44, 45, 46, 47, 48, 49, 50

## X_Connector 2x40 Pin
designator X?, comment Connector  2x40 Pin
Generic connector  2x40 Pin
footprint Pin Header 2x40 TH Pitch 2.54mm R (PinHeader 2x40 TH Pitch 2.54mm 90°)
footprint Pin Header 2x40 TH Pitch 2.54mm RR (PinHeader 2x40 TH Pitch 2.54mm 90°)
pins: 1, 2, 3, 4, 5, 6, 7, 8, 9, 10, 11, 12, 13, 14, 15, 16, 17, 18, 19, 20, 21, 22, 23, 24, 25, 26, 27, 28, 29, 30, 31, 32, 33, 34, 35, 36, 37, 38, 39, 40, 41, 42, 43, 44, 45, 46, 47, 48, 49, 50, 51, 52, 53, 54, 55, 56, 57, 58, 59, 60, 61, 62, 63, 64, 65, 66, 67, 68, 69, 70, 71, 72, 73, 74, 75, 76, 77, 78, 79, 80

## X_Connector 3Pin
designator X?, comment Connector 3Pin
Generic connector 3 Pin
footprint Pin Header 1x3 TH Pitch 2.54mm (PinHeader 1x3 TH Pitch 2.54mm)
footprint Pin Header 1x3 TH Pitch 2.54mm f (PinHeader 1x3 TH Pitch 2.54mm female)
pins: 1, 2, 3

## X_Connector 4Pin
designator X?, comment Connector 4Pin
Generic connector 4 Pin
footprint Pin Header 1x4 TH Pitch 2.54mm (PinHeader 1x4 TH Pitch 2.54mm)
footprint Binder 99 3390 282 04
footprint Pin Header 1x4 TH Pitch 2.54mm f (PinHeader 1x4 TH Pitch 2.54mm female)
pins: 1, 2, 3, 4

## X_Connector 5Pin
designator X?, comment Connector 5Pin
Generic connector 5 Pin
footprint Pin Header 1x5 TH Pitch 2.54mm (PinHeader 1x5 TH Pitch 2.54mm)
footprint Pin Header 1x5 TH Pitch 2.54mm f (PinHeader 1x5 TH Pitch 2.54mm female)
footprint circular pcb connector
pins: 1, 2, 3, 4, 5

## X_Connector 6Pin
designator X?, comment Connector 6Pin
Generic connector 6 Pin
footprint Pin Header 1x6 TH Pitch 2.54mm (PinHeader 1x6 TH Pitch 2.54mm)
footprint 419-10-206-00-006000_EDGE
footprint Pin Header 2x3 TH Pitch 2.54mm (PinHeader 2x3 TH Pitch 2.54mm)
footprint Pin Header 1x6 TH Pitch 2.54mm f (PinHeader 1x6 TH Pitch 2.54mm female)
footprint Pin Header 2x3 TH Pitch 2.54mm f (PinHeader 2x3 TH Pitch 2.54mm female)
pins: 1, 2, 3, 4, 5, 6

## X_Connector 7Pin
designator X?, comment Connector 7Pin
Generic connector 7 Pin
footprint Pin Header 1x7 TH Pitch 2.54mm (PinHeader 1x7 TH Pitch 2.54mm)
footprint Pin Header 1x7 TH Pitch 2.54mm f (PinHeader 1x7 TH Pitch 2.54mm female)
pins: 1, 2, 3, 4, 5, 6, 7

## X_Connector 8Pin
designator X?, comment Connector 8Pin
Generic connector 8 Pin
footprint Pin Header 1x8 TH Pitch 2.54mm (PinHeader 1x8 TH Pitch 2.54mm)
footprint Pin Header 1x8 TH Pitch 2.54mm f (PinHeader 1x8 TH Pitch 2.54mm female)
pins: 1, 2, 3, 4, 5, 6, 7, 8

## X_Connector 9Pin
designator X?, comment Connector 9Pin
Generic connector 9 Pin
footprint Pin Header 1x9 TH Pitch 2.54mm (PinHeader 1x9 TH Pitch 2.54mm)
footprint DSUB1.385-2H9 (Connector; D Subminiature; 9 Position; Right Angle; Pitch 1.385 mm)
footprint Pin Header 1x9 TH Pitch 2.54mm f (PinHeader 1x9 TH Pitch 2.54mm female)
pins: 1, 2, 3, 4, 5, 6, 7, 8, 9

## X_Connector 10Pin
designator X?, comment Connector 10Pin
Generic connector 10 Pin
footprint Pin Header 1x10 TH Pitch 2.54mm (PinHeader 1x10 TH Pitch 2.54mm)
footprint Pin Header 1x10 TH Pitch 2.54mm  f (PinHeader 1x10 TH Pitch 2.54mm Female)
pins: 1, 2, 3, 4, 5, 6, 7, 8, 9, 10

## X_Connector 11Pin
designator X?, comment Connector 11Pin
Generic connector 11 Pin
footprint Pin Header 1x11 TH Pitch 2.54mm (PinHeader 1x11 TH Pitch 2.54mm)
footprint Pin Header 1x11 TH Pitch 2.54mm F (PinHeader 1x11 TH Pitch 2.54mm female)
pins: 1, 2, 3, 4, 5, 6, 7, 8, 9, 10, 11

## X_Connector 12Pin
designator X?, comment Connector 12Pin
Generic connector 12 Pin
footprint Pin Header 1x12 TH Pitch 2.54mm (PinHeader 1x12 TH Pitch 2.54mm)
footprint Pin Header 1x12 TH Pitch 2.54mm f (PinHeader 1x12 TH Pitch 2.54mm female)
pins: 1, 2, 3, 4, 5, 6, 7, 8, 9, 10, 11, 12

## X_Connector 14Pin
designator X?, comment Connector 14Pin
Generic connector 14 Pin
footprint Pin Header 1x14 TH Pitch 2.54mm (PinHeader 1x14 TH Pitch 2.54mm)
footprint Pin Header 1x14 TH Pitch 2.54mm F (PinHeader 1x14 TH Pitch 2.54mm female)
pins: 1, 2, 3, 4, 5, 6, 7, 8, 9, 10, 11, 12, 13, 14

## X_Connector FTDI cable
designator X?, comment Connector 6Pin
Connector 6 Pin for FTDI cable; Manufacturer: Mill-Max; Manufacturer Part Number: 419-10-206-00-006000; Number of Contacts: 6; Pitch: 0.1inch; Supplier 1: Digi-Key; Supplier Part Number 1: ED1376-ND; Stock 1: 291; Pricing 1: 1=4.33, 10=4.152, 100=3.46, 500=2.941, 1000=2.5085 (USD); Mount: Through Hole; Material: Brass; Contact Plating: Gold; Packaging: Bulk; Number of Rows: 2; Row Spacing: 0.1inch; ComponentLink1URL: https://www.mill-max.com/assets/pdfs/021.2.PDF; ComponentLink1Description: https://www.mill-max.com/assets/pdfs/021.2.PDF
footprint Pin Header 1x6 TH Pitch 2.54mm (PinHeader 1x6 TH Pitch 2.54mm)
pins: 1 GND, 2 CTS#, 3 VCC, 4 TXD, 5 RXD, 6 RTS#

## X_FLE-125-01-G
designator X?, comment FLE-125-01-G
Conn Socket Strip SKT 50 POS 1.27mm Solder ST SMD Tube; Manufacturer: Samtec; Supplier 1: Digi-Key; Supplier Part Number 1: SAM9410-ND; Manufacturer Part Number: FLE-125-01; ComponentLink4URL: http://www.samtec.com/documents/webfiles/pdf/FLE_SM.PDF; ComponentLink4Description: http://www.samtec.com/documents/webfiles/pdf/FLE_SM.PDF; ComponentLink5URL: http://cloud.samtec.com/catalog_english/FLE_SM.PDF; ComponentLink5Description: http://cloud.samtec.com/catalog_english/FLE_SM.PDF
footprint FLE-125-01-G-DV-A
pins: 1, 2, 3, 4, 5, 6, 7, 8, 9, 10, 11, 12, 13, 14, 15, 16, 17, 18, 19, 20, 21, 22, 23, 24, 25, 26, 27, 28, 29, 30, 31, 32, 33, 34, 35, 36, 37, 38, 39, 40, 41, 42, 43, 44, 45, 46, 47, 48, 49, 50

## X_Glyn_Interface
designator X?, comment 62684-401100ALF
40 Position FPC Connector Contacts, Bottom 0.020" (0.50mm) Surface Mount, Right Angle, Amphenol 62684-401100ALF, TE  4-1734592-0; Manufacturer: Amphenol FCI; Supplier 1: Digi-Key; Supplier Part Number 1: 609-1195-1-ND; Manufacturer Part Number: 62684-401100ALF; ComponentLink1URL: https://datasheet.ciiva.com/25631/0900766b8118e51f-25631168.pdf; ComponentLink1Description: https://datasheet.ciiva.com/25631/0900766b8118e51f-25631168.pdf; ComponentLink2URL: https://datasheet.ciiva.com/3112/62684-3112007.pdf; ComponentLink2Description: https://datasheet.ciiva.com/3112/62684-3112007.pdf; ComponentLink3URL: https://datasheet.ciiva.com/670/62684-670200.pdf; ComponentLink3Description: https://datasheet.ciiva.com/670/62684-670200.pdf; ComponentLink4URL: https://datasheet.ciiva.com/670/62684-670201.pdf; ComponentLink4Description: https://datasheet.ciiva.com/670/62684-670201.pdf; ComponentLink5URL: https://datasheet.ciiva.com/670/62684-670202.pdf; ComponentLink5Description: https://datasheet.ciiva.com/670/62684-670202.pdf; ComponentLink6URL: https://datasheet.ciiva.com/16659/62684-16659882.pdf; ComponentLink6Description: https://datasheet.ciiva.com/16659/62684-16659882.pdf; ComponentLink7URL: https://datasheet.ciiva.com/16709/70236840-16709916.pdf; ComponentLink7Description: https://datasheet.ciiva.com/16709/70236840-16709916.pdf; ComponentLink8URL: https://datasheet.ciiva.com/3112/62684-3112397.pdf; ComponentLink8Description: https://datasheet.ciiva.com/3112/62684-3112397.pdf; ComponentLink9URL: https://datasheet.ciiva.com/5772/62684-5772782.pdf; ComponentLink9Description: https://datasheet.ciiva.com/5772/62684-5772782.pdf; Supplier 2: Digi-Key; Supplier Part Number 2: A100226CT-ND; Manufacturer 2: TE CONNECTIVITY; Stock 2: 2337; ComponentLink10URL: https://datasheet.ciiva.com/16317/4-1734592-0-16317310.pdf; ComponentLink10Description: https://datasheet.ciiva.com/16317/4-1734592-0-16317310.pdf; ComponentLink11URL: https://datasheet.ciiva.com/46396/1795029-46396773.pdf; ComponentLink11Description: https://datasheet.ciiva.com/46396/1795029-46396773.pdf; ComponentLink12URL: https://datasheet.ciiva.com/10365/eng-ds-1-1773440-6-0506-10365927.pdf; ComponentLink12Description: https://datasheet.ciiva.com/10365/eng-ds-1-1773440-6-0506-10365927.pdf; ComponentLink13URL: https://datasheet.ciiva.com/669/eng-cd-1734592-c-c-1734592-669272.pdf; ComponentLink13Description: https://datasheet.ciiva.com/669/eng-cd-1734592-c-c-1734592-669272.pdf; ComponentLink14URL: https://datasheet.ciiva.com/669/eng-cd-1734592-c-c-1734592-669273.pdf; ComponentLink14Description: https://datasheet.ciiva.com/669/eng-cd-1734592-c-c-1734592-669273.pdf; ComponentLink15URL: https://datasheet.ciiva.com/669/eng-cd-1734592-c-c-1734592-669274.pdf; ComponentLink15Description: https://datasheet.ciiva.com/669/eng-cd-1734592-c-c-1734592-669274.pdf; ComponentLink16URL: https://datasheet.ciiva.com/16660/eng-ds-1-1773440-6-0506-16660381.pdf; ComponentLink16Description: https://datasheet.ciiva.com/16660/eng-ds-1-1773440-6-0506-16660381.pdf; ComponentLink17URL: https://datasheet.ciiva.com/1437/586796-1437950.pdf; ComponentLink17Description: https://datasheet.ciiva.com/1437/586796-1437950.pdf; Manufacturer Part Number 2: 4-1734592-0
footprint 4-1734592-0
pins: 1 nRST, 2 VSS, 3 B5, 4 B4, 5 B3, 6 B2, 7 B1, 8 B0, 9 VSS, 10 G5, 11 G4, 12 G3, 13 G2, 14 G1, 15 G0, 16 VSS, 17 R5, 18 R4, 19 R3, 20 R2, 21 R1, 22 R0, 23 VSS, 24 DCLK, 25 VSS, 26 HSYNC, 27 VSYNC, 28 ENB, 29 PWCTRL, 30 VDD, 31 VSS, 32 VSS, 33 VCC, 34 VCC, 35 NC, 36 LEDCTRL, 37 YU, 38 XL, 39 YD, 40 XR

## X_M50-3602542
designator X?, comment M50-3602542
CONN HDR 1.27MM SMD AU 50POS; Manufacturer: Harwin; Number of Contacts: 50; Max Current Rating: 1A; Contact Resistance: 30mR; Gender: Male; Insulation Resistance: 5GR; Row Spacing: 0.05inch; Supplier 1: Digi-Key; Supplier Part Number 1: 952-1394-ND; Manufacturer Part Number: M50-3602542; Stock 1: 1032; Pricing 1: 1=4.29, 10=4.114, 100=3.428, 500=2.9138, 1000=2.4853 (USD); Mount: Surface Mount; Contact Plating: Gold; Contact Material: Copper,Copper Alloy; Colour: Black; Material: Thermoplastic; Housing Material: Thermoplastic; Min Operating Temperature: -40°C; Max Operating Temperature: 105°C; Number of Rows: 2; Termination: SMD/SMT; Packaging: Bulk; Package Quantity: 120; Current Rating: 1A; Number of Positions: 50; Orientation: Straight; Length: 31.75mm; Pitch: 1.27mm; Contact Mating Length: 0.118inch; Depth: 3.41mm; Radiation Hardening: No; REACH SVHC: No SVHC; ComponentLink1URL: https://datasheet.ciiva.com/14172/04391418-14172128.pdf; ComponentLink1Description: https://datasheet.ciiva.com/14172/04391418-14172128.pdf; ComponentLink2URL: https://datasheet.ciiva.com/11748/0900766b80da61e5-11748973.pdf; ComponentLink2Description: https://datasheet.ciiva.com/11748/0900766b80da61e5-11748973.pdf; ComponentLink3URL: https://datasheet.ciiva.com/9480/m50-360-9480343.pdf; ComponentLink3Description: https://datasheet.ciiva.com/9480/m50-360-9480343.pdf; ComponentLink4URL: https://datasheet.ciiva.com/5160/m50-360-350131-5160681.pdf; ComponentLink4Description: https://datasheet.ciiva.com/5160/m50-360-350131-5160681.pdf; ComponentLink5URL: https://datasheet.ciiva.com/409/m50-360-409180.pdf; ComponentLink5Description: https://datasheet.ciiva.com/409/m50-360-409180.pdf; ComponentLink6URL: https://datasheet.ciiva.com/23592/1693795-23592684.pdf; ComponentLink6Description: https://datasheet.ciiva.com/23592/1693795-23592684.pdf
footprint Pin Header 2x25 TH Pitch 1.27mm
pins: 1, 2, 3, 4, 5, 6, 7, 8, 9, 10, 11, 12, 13, 14, 15, 16, 17, 18, 19, 20, 21, 22, 23, 24, 25, 26, 27, 28, 29, 30, 31, 32, 33, 34, 35, 36, 37, 38, 39, 40, 41, 42, 43, 44, 45, 46, 47, 48, 49, 50

## X_RB1-125BAG1A
designator X?, comment RB1-125BAG1A
Accessory RJ-45 With Transformer Connector - UDE; Manufacturer 1: WIZnet; Manufacturer: Bel; Manufacturer Part Number: SI-46014-F; Shielding: Shielded; Connector Type: RJ45; Number of Ports: 1; Number of Contacts: 8; Gender: Female; Direction: User Selectable; Number of Cores per Jack: 4; Pitch: 2.54mm; Supplier 1: Digi-Key; Supplier Part Number 1: 1278-1011-ND; Manufacturer Part Number 1: RB1-125BAG1A; ComponentLink1URL: https://datasheet.ciiva.com/6930/rb1-125bag1a-approvalsheet-6930969.pdf; ComponentLink1Description: https://datasheet.ciiva.com/6930/rb1-125bag1a-approvalsheet-6930969.pdf; ComponentLink2URL: https://datasheet.ciiva.com/15367/rb1-125bag1a111-00-224696-15367787.pdf; ComponentLink2Description: https://datasheet.ciiva.com/15367/rb1-125bag1a111-00-224696-15367787.pdf; ComponentLink3URL: https://datasheet.ciiva.com/16480/rb1-125bag1a-16480451.pdf; ComponentLink3Description: https://datasheet.ciiva.com/16480/rb1-125bag1a-16480451.pdf; ComponentLink4URL: https://datasheet.ciiva.com/19455/2132875-19455478.pdf; ComponentLink4Description: https://datasheet.ciiva.com/19455/2132875-19455478.pdf; Supplier 2: Digi-Key; Supplier Part Number 2: 380-1198-ND; Stock 2: 14366; Pricing 2: 1=3.73, 10=3.576, 25=3.278, 50=3.129, 100=2.98, 250=2.60752, 500=2.533, 1000=2.1605, 2500=2.0115 (USD); Mount: Through Hole; Colour: Green,Yellow; Contact Material: Copper Alloy; Contact Plating: Gold; Housing Material: Thermoplastic; Min Operating Temperature: -40°C; Max Operating Temperature: 85°C; Packaging: Tray; Package Quantity: 320; Number of Rows: 1; Termination: Solder; Orientation: Vertical; ComponentLink5URL: https://datasheet.ciiva.com/9395/si-46014-f-9395379.pdf; ComponentLink5Description: https://datasheet.ciiva.com/9395/si-46014-f-9395379.pdf
footprint RB1-125BAG1A (CONN MAGJACK 1PORT 100 BASE-T)
pins: 1 TD+ (io), 2 TD- (io), 3 CT, 4 NC, 5 NC, 6 NC, 7 RD+ (io), 8 RD- (io), 9 L1 (in), 10 L2 (out), 11 L3 (in), 12 L4 (out), 13 SHIELD (power)

## X_RJHSE5E80
designator X?, comment RJHSE5E80
Modular Connectors / Ethernet Connectors High Speed RJ w/no LED's or Shield; Manufacturer 1: Amphenol Commercial; Voltage Rating: 125V; Manufacturer Part Number 1: RJHSE5E80; Termination: Solder; ComponentLink1URL: http://www.mouser.com/ds/2/18/Amphenol_RJHSE_BRO-311217.pdf; ComponentLink1Description: http://www.mouser.com/ds/2/18/Amphenol_RJHSE_BRO-311217.pdf; ComponentLink2URL: https://www.amphenolcanada.com/ProductSearch/pdf/RJHSE_BRO.pdf; ComponentLink2Description: https://www.amphenolcanada.com/ProductSearch/pdf/RJHSE_BRO.pdf; Supplier 1: Digi-Key; Supplier Part Number 1: RJHSE5E80-ND; ComponentLink3URL: https://datasheet.ciiva.com/16408/eng-cd-6368150-b1-16408714.pdf; ComponentLink3Description: https://datasheet.ciiva.com/16408/eng-cd-6368150-b1-16408714.pdf; ComponentLink4URL: https://datasheet.ciiva.com/30494/0900766b8121d3d0-30494389.pdf; ComponentLink4Description: https://datasheet.ciiva.com/30494/0900766b8121d3d0-30494389.pdf; ComponentLink5URL: https://datasheet.ciiva.com/30086/63681501-30086239.pdf; ComponentLink5Description: https://datasheet.ciiva.com/30086/63681501-30086239.pdf; ComponentLink7URL: https://datasheet.ciiva.com/685/eng-cd-6368150-c1-685799.pdf; ComponentLink7Description: https://datasheet.ciiva.com/685/eng-cd-6368150-c1-685799.pdf
footprint RJ45 (generic RJ45 footprint w/o LEDs)
pins: 1 Rx+ (io), 2 Rx- (io), 3 Tx+ (io), 4 VCC (power), 5 VCC (power), 6 Tx- (io), 7 GND (power), 8 GND (power), 9 SHIELD (power)

## X_Segger JLINK 10 Pin Needle Adapter
designator X?, comment Segger JLINK 10 Pin Needle Adapter  (value not drawn)  (no BOM)
Manufacturer: NXP Semiconductors; Manufacturer Part Number: 74LVC1G123DC,125; Min Supply Voltage: 1.65V; Max Supply Voltage: 5.5V; Propagation Delay: 5.3ns; Number of Elements: 1; High Level Output Current: -32mA; Low Level Output Current: 32mA; Logic Function: Multivibrator; Quiescent Current: 20uA; Schmitt Trigger Input: Yes; Output Current: 50mA; Number of Positions: 2; Current Rating: 8A; Voltage Rating: 160V; Connector Type: Plug; Voltage: 300V; Pitch: 3.5mm; Datasheet: https://www.segger.com/products/debug-probes/j-link/accessories/adapters/10-pin-needle-adapter/#tab-1628-4; Manufacturer 1: Segger; Manufacturer Part Number 1: *; Supplier 1: Digi-Key; Supplier Part Number 1: 1727-2066-1-ND; Stock 1: 1834; Pricing 1: 1=0.55, 10=0.467, 100=0.349, 500=0.27418, 1000=0.21187 (USD); Mount: Surface Mount; Case/Package: VSSOP; Number of Pins: 8; Min Operating Temperature: -40°C; Max Operating Temperature: 125°C; Packaging: Tape and Reel; Package Quantity: 3000; Independent Circuits: 1; Lead Free: Lead Free; REACH SVHC: No SVHC; ComponentLink1URL: https://datasheet.ciiva.com/4232/806074lvc1g123-4232470.pdf; ComponentLink1Description: https://datasheet.ciiva.com/4232/806074lvc1g123-4232470.pdf; ComponentLink2URL: https://datasheet.ciiva.com/8243/74lvc1g123-8243222.pdf; ComponentLink2Description: https://datasheet.ciiva.com/8243/74lvc1g123-8243222.pdf; ComponentLink3URL: https://datasheet.ciiva.com/46397/1846125-46397703.pdf; ComponentLink3Description: https://datasheet.ciiva.com/46397/1846125-46397703.pdf; Supplier 2: Digi-Key; Supplier Part Number 2: 277-6083-ND; Stock 2: 709; Pricing 2: 1=2.63, 10=2.519, 50=2.409, 100=2.3433, 250=2.19, 500=2.0148, 1000=1.86149, 2500=1.7739, 5000=1.6644 (USD); Weight: 0.0515oz; Contact Plating: Tin; Housing Material: Polybutylene; Contact Material: Tin; Colour: Green; Housing Colour: Green; Number of Rows: 1; Termination: Solder; Number of Contacts: 2; Orientation: Straight; Max Current Rating: 8A; Number of Positions Per Level: 2; Number of Levels: 1; Current: 8A; Length: 17.3mm; Height: 12.7mm; Depth: 7.25mm; Width: 17.3mm; Flammability Rating: UL94 V-0
footprint TC2050-IDC-FP (Footprint not found)
pins: 1 VTref, 2 SWDIO/TMS, 3 GND, 4 SWCLK/TCK, 5 5V-Supply, 6 SWO/TDO, 7 RTCK, 8 TDI, 9 TRST, 10 nRESET

## X_SI-46014-F
designator X?, comment SI-46014-F
CONN MAGJACK 1PORT 100 BASE-T; Manufacturer: Bel; Supplier 1: Digi-Key; Supplier Part Number 1: 380-1198-ND; Manufacturer Part Number: SI-46014-F; ComponentLink1URL: https://datasheet.ciiva.com/9395/si-46014-f-9395379.pdf; ComponentLink1Description: https://datasheet.ciiva.com/9395/si-46014-f-9395379.pdf
footprint SI-46001-F (CONN MAGJACK 1PORT 100 BASE-T)
pins: 1 TD+ (io), 2 TCT, 3 TD- (io), 4 RD+ (io), 5 RCT, 6 RD- (io), 7 NC, 8 GND (power), 9 L1 (in), 10 L2 (out), 11 L3 (in), 12 L4 (out), 13 SHIELD (power)

## X_TC2030
designator X?, comment TC2030  (no BOM)
Tag Connect 6 polig
footprint TC2030-MCP
footprint TC2030-MCP-NL
pins: 1, 2, 3, 4, 5, 6

## X_TC2050-IDC-FP
designator tc?, comment TC2050-IDC-FP  (no BOM)
TC2050-IDC-FP test connector footprint; Datasheet: http://www.tag-connect.com/Materials/TC2050-IDC Datasheet.pdf; Manufacturer 1: http://www.tag-connect.com; Manufacturer Part Number 1: *
footprint TC2050-IDC-FP (Footprint not found)
pins: 1 pin1, 2 pin2, 3 pin3, 4 pin4, 5 pin5, 6 pin6, 7 pin7, 8 pin8, 9 pin9, 10 pin10

## X_UE27-AC54-100
designator X?, comment UE27-AC54-100
USB - A USB 2.0 Receptacle Connector 4 Position Through Hole, Right Angle, Horizontal; Manufacturer: Amphenol Commercial; Supplier 1: Digi-Key; Supplier Part Number 1: UE27AC54100-ND; Manufacturer Part Number: UE27-AC54-100; ComponentLink1URL: https://datasheet.ciiva.com/3095/usb-cat-3095736.pdf; ComponentLink1Description: https://datasheet.ciiva.com/3095/usb-cat-3095736.pdf; ComponentLink2URL: https://datasheet.ciiva.com/16668/usb-cat-16668272.pdf; ComponentLink2Description: https://datasheet.ciiva.com/16668/usb-cat-16668272.pdf; ComponentLink3URL: https://datasheet.ciiva.com/851/ue27acx4x0x-851297.pdf; ComponentLink3Description: https://datasheet.ciiva.com/851/ue27acx4x0x-851297.pdf; ComponentLink4URL: https://datasheet.ciiva.com/12494/ue27acx4x0x-45641-12494043.pdf; ComponentLink4Description: https://datasheet.ciiva.com/12494/ue27acx4x0x-45641-12494043.pdf
footprint UE27AC54100
pins: 1 VBUS (power), 2 D- (io), 3 D+ (io), 4 GND (power), 5 SHIELD (power)